# Altium schematic symbol library OpAmp.SchLib: 8 symbols
Pins are listed as number, name and electrical type; pins without a type are passive.

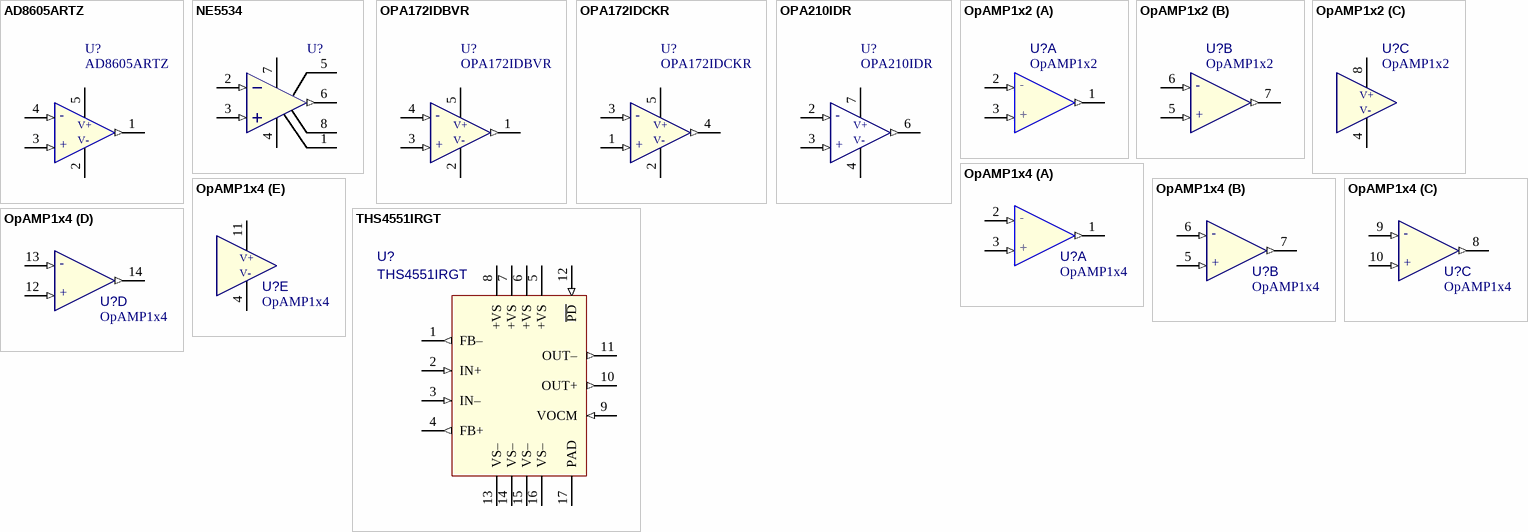
[diagram p0: symbols AD8605ARTZ to THS4551IRGT]

## AD8605ARTZ
designator U?
Precision, Low Noise, CMOS, Rail-to-Rail,  Input/Output Operational Amplifiers; value: AD8605ARTZ
footprint SOT-23-5 (SOT23, 5-Leads, Body 2.9x1.6mm, Pitch 0.95mm, Lead Span 2.8mm, IPC Medium Density)
pins: 1 (out), 2 V- (power), 3 + (in), 4 - (in), 5 V+ (power)

## NE5534
designator U?
Low-Noise Operational Amplifier; value: NE5534; ComponentLink1Description: Manufacturer Link; ComponentLink1URL: http://www.ti.com/; ComponentLink2Description: Datasheet; ComponentLink2URL: http://www-s.ti.com/sc/ds/ne5534a.pdf
footprint SO-8_L (8-Pin Small Outline Integrated Circuit 1.27 mm Pitch, IPC High Density)
footprint DIP-8 (DIP; 8 Leads; Row Spacing 7.62 mm; Pitch 2.54 mm)
pins: 1 BAL, 2 IN- (in), 3 IN+ (in), 4 V- (power), 5 CMPEN, 6 OUT (out), 7 V+ (power), 8 COMP/BAL

## OPA172IDBVR
designator U?
OPAx172 36-V, Single-Supply, 10-MHz, Rail-to-Rail Output Operational Amplifiers; value: OPA172IDBVR
footprint SOT-23-5 (SOT23, 5-Leads, Body 2.9x1.6mm, Pitch 0.95mm, Lead Span 2.8mm, IPC Medium Density)
pins: 1 (out), 2 V- (power), 3 + (in), 4 - (in), 5 V+ (power)

## OPA172IDCKR
designator U?
OPAx172 36-V, Single-Supply, 10-MHz, Rail-to-Rail Output Operational Amplifiers; value: OPA172IDCKR
footprint SC70-5 (SC5 Package  5-Lead Plastic SC70)
pins: 1 + (in), 2 V- (power), 3 - (in), 4 (out), 5 V+ (power)

## OPA210IDR
designator U?
2.2-nV/√Hz Precision, Low-Power, 36-V Operational Amplifiers; value: AD8605ARTZ
footprint SO-8_N (8-Pin Small Outline Integrated Circuit 1.27 mm Pitch, IPC Medium Density)
pins: 2 - (in), 3 + (in), 4 V- (power), 6 (out), 7 V+ (power)

## OpAMP1x2
designator U?
Dual Operational Amplifier Variant 1; value: AD8605ARTZ
footprint SO-8_N (8-Pin Small Outline Integrated Circuit 1.27 mm Pitch, IPC Medium Density)
footprint VSSOP-8(DGK) (VSSOP, 8-Leads, Body 3,00x3,00mm, Pitch 0,65mm, IPC Medium Density)
part A pins: 1 (out), 2 - (in), 3 + (in)
part B pins: 5 + (in), 6 - (in), 7 (out)
part C pins: 4 V- (power), 8 V+ (power)

## OpAMP1x4
designator U?
Quad Operational Amplifier Variant 1; value: AD8605ARTZ
footprint TSSOP-14 (PW0014A) (TSSOP, 14-Leads, Body 5.00x4.40mm, Pitch 0.65mm, IPC Medium Density)
part A pins: 1 (out), 2 - (in), 3 + (in)
part B pins: 5 + (in), 6 - (in), 7 (out)
part C pins: 8 (out), 9 - (in), 10 + (in)
part D pins: 12 + (in), 13 - (in), 14 (out)
part E pins: 4 V- (power), 11 V+ (power)

## THS4551IRGT
designator U?
Low-Noise, Precision, 150-MHz, Fully Differential Amplifier; Value: THS4551IRGT
footprint QFN-16-3X3 (QFN, 16-Leads, Body 3,00x3,00mm, Pitch 0,50mm, Thermal Pad 1,68x1,68mm, IPC Low Density)
pins: 1 FB– (out) "Inverting (negative) output feedback", 2 IN+ (in) "Noninverting (positive) amplifier input", 3 IN– (in) "Inverting (negative) amplifier input", 4 FB+ (out) "Noninverting (positive) output feedback", 5 +VS "Positive power-supply input", 6 +VS "Positive power-supply input", 7 +VS "Positive power-supply input", 8 +VS "Positive power-supply input", 9 VOCM (in) "Common-mode voltage input", 10 OUT+ (out) "Noninverting (positive) amplifier output", 11 OUT– (out) "Inverting (negative) amplifier output", 12 ~{PD} (in) "Power down. PD = logic low = power off mode; PD = logic high = normal operation", 13 VS– (power) "Negative power-supply input", 14 VS– (power) "Negative power-supply input", 15 VS– (power) "Negative power-supply input", 16 VS– (power) "Negative power-supply input", 17 PAD